# Altium schematic symbol library ESP8266.SchLib: 1 symbol
Pins are listed as number, name and electrical type; pins without a type are passive.

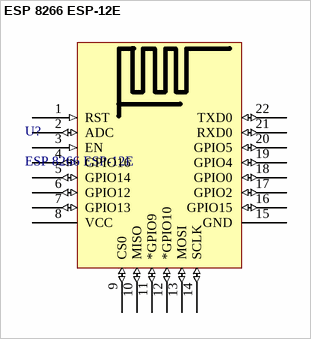
[diagram p0: symbol ESP 8266 ESP-12E]

## ESP 8266 ESP-12E
designator U?
esp 8266 - low power consumption of the UART-WiFi module; ComponentLink1Description: Datasheet; ComponentLink1URL: https://www.usinainfo.com.br/index.php?controller=attachment&id_attachment=323
pins: 1 RST (in) "1) Reset Pin. Atctive low; 2) NC Or External MCU control", 2 ADC (io) "1) 10-bit ADC Analog Input 0-1V", 3 EN (in) "1) Module enable", 4 GPIO16 (io) "1) GPIO (WEAK UP)", 5 GPIO14 (io) "1) GPIO", 6 GPIO12 (io) "1) GPIO", 7 GPIO13 (io) "1) GPIO; 2) UART2 RXD", 8 VCC "1) Power supply 3.3V IN", 9 CS0 (io) "1) Chip selection of SPI interface", 10 MISO (io) "1) MISO of SPI interface", 11 *GPIO9 (io) "1) GPIO (Only available on ESP-12-D)", 12 *GPIO10 (io) "1) GPIO (Only available on ESP-12-D)", 13 MOSI (io) "1) MISO of SPI interface", 14 SCLK (io) "1) Clock of SPI interface", 15 GND "1) Power Ground", 16 GPIO15 (io) "1) GPIO; 2) UART2 TXD", 17 GPIO2 (io) "1) GPIO; 2) WIFI status. Connection inside the module LED", 18 GPIO0 (io) "1) GPIO", 19 GPIO4 (io) "1) GPIO", 20 GPIO5 (io) "1) GPIO", 21 RXD0 (io) "1) UART0 RXD", 22 TXD0 (io) "1) UART0 TXD"